# Altium schematic symbol library AT45DB081E-SSHN-B.SchLib: 1 symbol
Pins are listed as number, name and electrical type; pins without a type are passive.

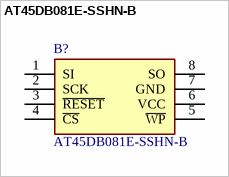
[diagram p0: symbol AT45DB081E-SSHN-B]

## AT45DB081E-SSHN-B
designator B?
The AT45DB081E DataFlash is a member of our System Enhancing class of code and data storage solutions designed with an advanced dual SRAM buffer architecture that makes it the most efficient memory for data logging. It also incorporates a suite of advanced features that save system power, reduce processor overhead, simplify software development, and provide comprehensive data security and integrity options.; Manufacturer_Name: Renesas Electronics; Geometry.Height: 1.75mm; Mouser Part Number: 988-AT45DB081ESSHN-B; Mouser Price/Stock: https://www.mouser.co.uk/ProductDetail/Renesas-Dialog/AT45DB081E-SSHN-B?qs=IS%252B4QmGtzzqxC8S2FUDu%2Fg%3D%3D; Manufacturer_Part_Number: AT45DB081E-SSHN-B; Datasheet Link: https://www.renesas.com/us/en/products/memory-logic/non-volatile-memory/spi-nor-flash/dataflash-spi-memory/at45db081e-8mbit-17-v-36-v-range-spi-serial-flash-memory
footprint SOIC127P600X175-8N
pins: 1 SI, 2 SCK, 3 ~{RESET}, 4 ~{CS}, 5 ~{WP}, 6 VCC, 7 GND, 8 SO